# Altium schematic symbol library PEC09-2325F-S0015.SchLib: 1 symbol
Pins are listed as number, name and electrical type; pins without a type are passive.

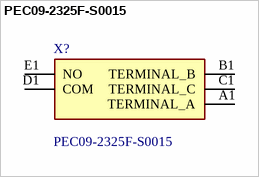
[diagram p0: symbol PEC09-2325F-S0015]

## PEC09-2325F-S0015
designator X?
Rotary Encoder Mechanical 15 Quadrature (Incremental) Right Angle; Manufacturer_Name: Bourns; Geometry.Height: 11.35mm; Mouser Part Number: 652-PEC092325FS0015; Mouser Price/Stock: https://www.mouser.co.uk/ProductDetail/Bourns/PEC09-2325F-S0015?qs=Zq5ylnUbLm5R7fxaOscVkg%3D%3D; Manufacturer_Part_Number: PEC09-2325F-S0015; Datasheet Link: https://www.bourns.com/docs/product-datasheets/pec09.pdf
footprint PEC092325FS0015
pins: A1 TERMINAL_A, B1 TERMINAL_B, C1 TERMINAL_C, D1 COM, E1 NO